# Altium schematic symbol library MB0015A.01.A.2.SchLib: 1 symbol
Pins are listed as number, name and electrical type; pins without a type are passive.

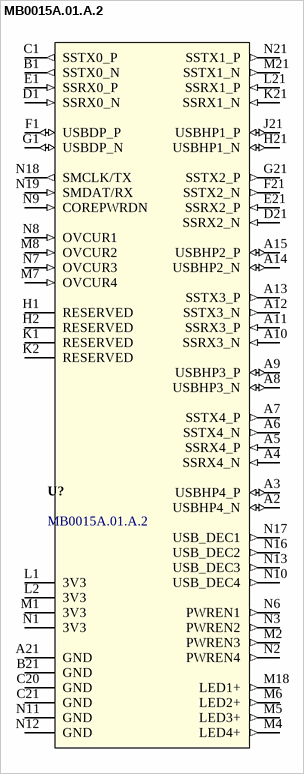
[diagram p0: symbol MB0015A.01.A.2]

## MB0015A.01.A.2
designator U?
High-Speed USB 3.0 HUB ,VL811+
pins: A2 USBHP4_N (io), A3 USBHP4_P (io), A4 SSRX4_N (in), A5 SSRX4_P (in), A6 SSTX4_N (out), A7 SSTX4_P (out), A8 USBHP3_N (io), A9 USBHP3_P (io), A10 SSRX3_N (in), A11 SSRX3_P (in), A12 SSTX3_N (out), A13 SSTX3_P (out), A14 USBHP2_N (io), A15 USBHP2_P (io), A21 GND (power), B1 SSTX0_N (out), B21 GND (power), C1 SSTX0_P (out), C20 GND (power), C21 GND (power), D1 SSRX0_N (in), D21 SSRX2_N (in), E1 SSRX0_P (in), E21 SSRX2_P (in), F1 USBDP_P (io), F21 SSTX2_N (out), G1 USBDP_N (io), G21 SSTX2_P (out), H1 RESERVED (power), H2 RESERVED (power), H21 USBHP1_N (io), J21 USBHP1_P (io), K1 RESERVED (power), K2 RESERVED (power), K21 SSRX1_N (in), L1 3V3 (power), L2 3V3 (power), L21 SSRX1_P (in), M1 3V3 (power), M2 PWREN3 (out), M4 LED4+ (out), M5 LED3+ (out), M6 LED2+ (out), M7 OVCUR4 (in), M8 OVCUR2 (in), M18 LED1+ (out), M21 SSTX1_N (out), N1 3V3 (power), N2 PWREN4 (out), N3 PWREN2 (out), N6 PWREN1 (out), N7 OVCUR3 (in), N8 OVCUR1 (in), N9 COREPWRDN (in), N10 USB_DEC4 (out), N11 GND (power), N12 GND (power), N13 USB_DEC3 (out), N16 USB_DEC2 (out), N17 USB_DEC1 (out), N18 SMCLK/TX (out), N19 SMDAT/RX (in), N21 SSTX1_P (out)